# Altium footprint library DoryPcbLib.PcbLib: 24 footprints (part 2 of 2)
Each footprint in its own frame and in the unit in brackets; x right, y up, seen from the top. Pads: shape width x height; smd on the part's side, far side on the other; paste and mask are expansions set on the pad; w line width, h text height; cw(c..) or ccw(c..) is an arc to the next point about the centre after c.
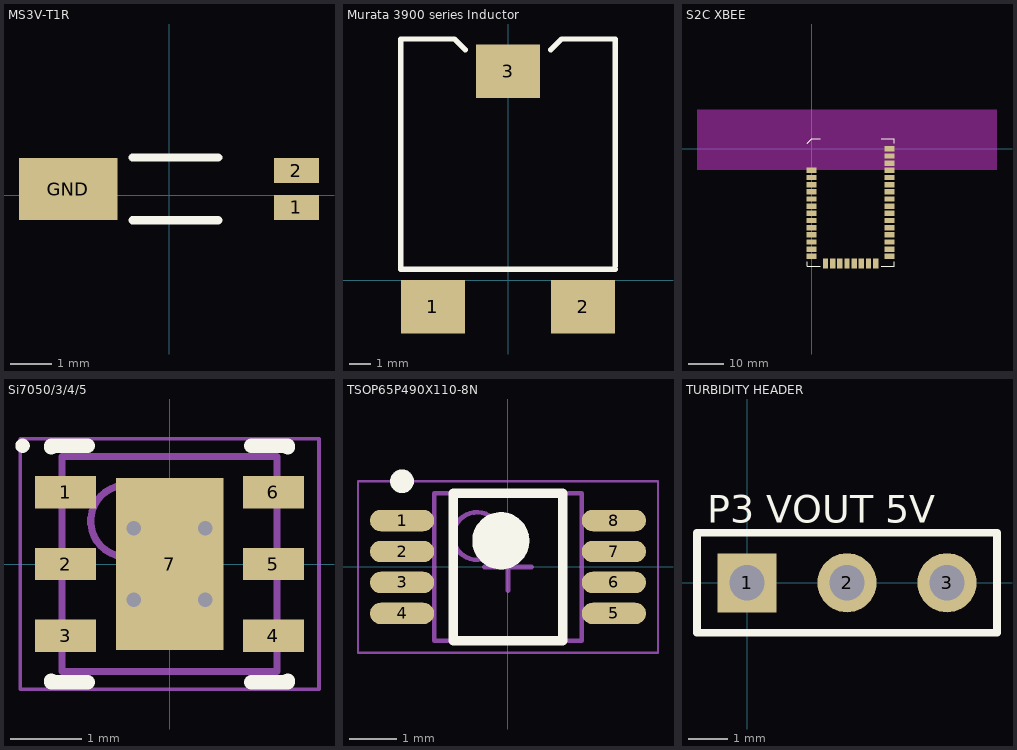
[diagram p1: the footprints below, top view; thin cyan lines are the x and y axes]

## MS3V-T1R [mm]
pads (3):
  rect 1.1x0.6 smd: 1(3.1,-0.3) 2(3.1,0.6)
  rect 2.4x1.5 smd: GND(-2.45,0.15)
Top Overlay:
  lines w0.2: -0.89,-0.61 1.2,-0.61 ; -0.889,0.914 1.2,0.914

## Murata 3900 series Inductor [mm]
height 5.8
pads (3):
  rect 3x2.5 smd: 1(-3.5,-1.25) 2(3.5,-1.25) 3(0,9.75)
Top Overlay:
  lines w0.254: -2,10.75 -2.5,11.25 -5,11.25 -5,0.5 5,0.5 ; 2,10.75 2.5,11.25 5,11.25 5,0.67

## PCBComponent_1 [mil]

## S2C XBEE [mil]
pads (37):
  rect 112x60 smd: 1(0,-237) 2(0,-316) 3(0,-395) 4(0,-474) 5(0,-553) 6(0,-632) 7(0,-711) 8(0,-790) 9(0,-869) 10(0,-948) 11(0,-1027) 12(0,-1106) 13(0,-1185) 22(859,-1185) 23(859,-1106) 24(859,-1027) 25(859,-948) 26(859,-869) 27(859,-790) 28(859,-711) 29(859,-632) 30(859,-553) 31(859,-474) 32(859,-395) 33(859,-316) 34(859,-237) 35(859,-158) 36(859,-79) 37(859,0)
  rect 60x112 smd: 14(153,-1263) 15(232,-1263) 16(311,-1263) 17(390,-1263) 18(469,-1263) 19(548,-1263) 20(627,-1263) 21(706,-1263)
Top Overlay:
  lines w10: -51,-1245 -51,-1297 93,-1297 ; -51,60 -51,61 0,112 93,112 ; 766,-1297 910,-1297 910,-1245 ; 766,112 910,112 910,60
Keep-Out Layer:
  rectangle: -1263.78,-236.22 2043.31,433.07
3D body: height 120.5, standoff 0, extent -51,-1310 907,66

## Si7050/3/4/5 [mm] "I2C Temperature sensor SON, 6-Leads, Body 3.00x3.00mm, Pitch 1.00mm, Thermal Pad 2.40x1.50mm, IPC Medium Density"
height 0.85
pads (7):
  rect 0.85x0.45 smd: 1(-1.45,1) 2(-1.45,0) 3(-1.45,-1) 4(1.45,-1) 5(1.45,0) 6(1.45,1)
  rect 1.5x2.4 smd: 7(0,0)
via 0.5,-0.5 diameter 0.5 hole 0.2
via -0.5,-0.5 diameter 0.5 hole 0.2
via 0.5,0.5 diameter 0.5 hole 0.2
via -0.5,0.5 diameter 0.5 hole 0.2
Top Overlay:
  circle w0.1: c-2.05,1.65 r0.05
  lines w0.2: -1.65,-1.625 -1.65,-1.65 -1.14,-1.65 ; -1.65,1.625 -1.65,1.65 -1.14,1.65 ; 1.14,-1.65 1.65,-1.65 1.65,-1.625 ; 1.14,1.65 1.65,1.65 1.65,1.625
Mechanical 13:
  circle w0.1: c-0.6,0.6 r0.5
  lines w0.1: -1.5,-1.5 1.5,-1.5 1.5,1.5 -1.5,1.5 -1.5,-1.5
Mechanical 15:
  lines w0.05: -2.085,-1.75 2.085,-1.75 2.085,1.75 -2.085,1.75 -2.085,-1.75
  lines w0.1: -0.5,0 0.5,0 ; 0,-0.5 0,0.5
3D body: height 0.85, standoff 0, extent -1.5,-1.5 1.5,1.5

## SJ-43504-SMT [mil]
3D body: height 78.74, standoff -472.44, extent -179.12,-98.42 179.14,98.43
3D body: height 78.74, standoff -472.44, extent -179.13,-98.42 179.14,98.43

## TSOP65P490X110-8N [mm] "TSOP, 8-Leads, Body 3.00x3.00mm, Pitch 0.65mm, IPC Medium Density"
height 1.1
pads (8):
  oval 1.35x0.45 smd: 1(-2.225,0.975) 2(-2.225,0.325) 3(-2.225,-0.325) 4(-2.225,-0.975) 5(2.225,-0.975) 6(2.225,-0.325) 7(2.225,0.325) 8(2.225,0.975)
Top Overlay:
  circle w0.6: c-0.15,0.55 r0.3
  circle w0.25: c-2.225,1.8 r0.125
  lines w0.2: -1.15,-1.55 1.15,-1.55 1.15,1.55 -1.15,1.55 -1.15,-1.55
Mechanical 13:
  circle w0.1: c-0.65,0.65 r0.5
  lines w0.1: -1.55,-1.55 1.55,-1.55 1.55,1.55 -1.55,1.55 -1.55,-1.55
Mechanical 15:
  lines w0.05: -3.15,-1.8 3.15,-1.8 3.15,1.8 -3.15,1.8 -3.15,-1.8
  lines w0.1: -0.5,0 0.5,0 ; 0,-0.5 0,0.5
3D body: height 1.1, standoff 0.05, extent -1.55,-1.55 1.55,1.55

## TURBIDITY HEADER [mm] "Connector; Header; 3 Position"
pads (3):
  rect 1.5x1.5 hole 0.9: 1(0,0)
  round 1.5 hole 0.9: 2(2.54,0) 3(5.08,0)
Top Overlay:
  lines w0.2: -1.27,-1.27 6.35,-1.27 6.35,1.27 -1.27,1.27 -1.27,-1.27
  text "P3 VOUT 5V" at -1.016,1.524 h0.7